# EAGLE library part GRPB092VWQP (library con-sullins-grpb)
HEADER
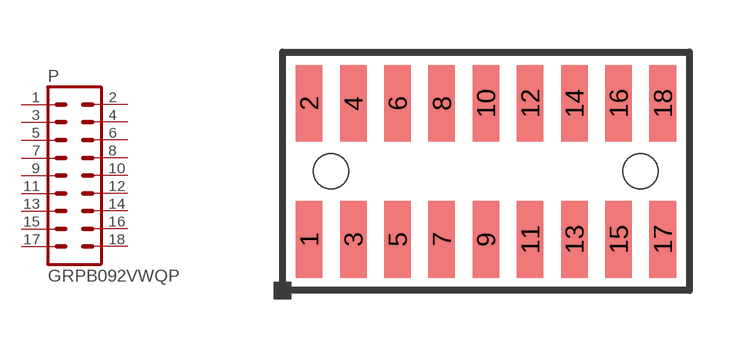
[diagram p6: symbol with the pads of GRPB092VWQP; footprint GRPB092VWQP]

Designator prefix P

## GRPB092VWQP  [GRPB092VWQP]
1  1  pas
2  2  pas
3  3  pas
4  4  pas
5  5  pas
6  6  pas
7  7  pas
8  8  pas
9  9  pas
10  10  pas
11  11  pas
12  12  pas
13  13  pas
14  14  pas
15  15  pas
16  16  pas
17  17  pas
18  18  pas

## Footprint GRPB092VWQP (pad centres in mm)
HEADER
smd 0.762 x 2.21: 1 -5.08,-1.956; 2 -5.08,1.956; 3 -3.81,-1.956; 4 -3.81,1.956; 5 -2.54,-1.956; 6 -2.54,1.956; 7 -1.27,-1.956; 8 -1.27,1.956; 9 0,-1.956; 10 0,1.956; 11 1.27,-1.956; 12 1.27,1.956; 13 2.54,-1.956; 14 2.54,1.956; 15 3.81,-1.956; 16 3.81,1.956; 17 5.08,-1.956; 18 5.08,1.956
hole 1 at -4.445,0
hole 1 at 4.445,0